# Altium footprint library pcblib_truman.PcbLib: 31 footprints (part 1 of 2)
Each footprint in its own frame and in the unit in brackets; x right, y up, seen from the top. Pads: shape width x height; smd on the part's side, far side on the other; paste and mask are expansions set on the pad; w line width, h text height; cw(c..) or ccw(c..) is an arc to the next point about the centre after c.
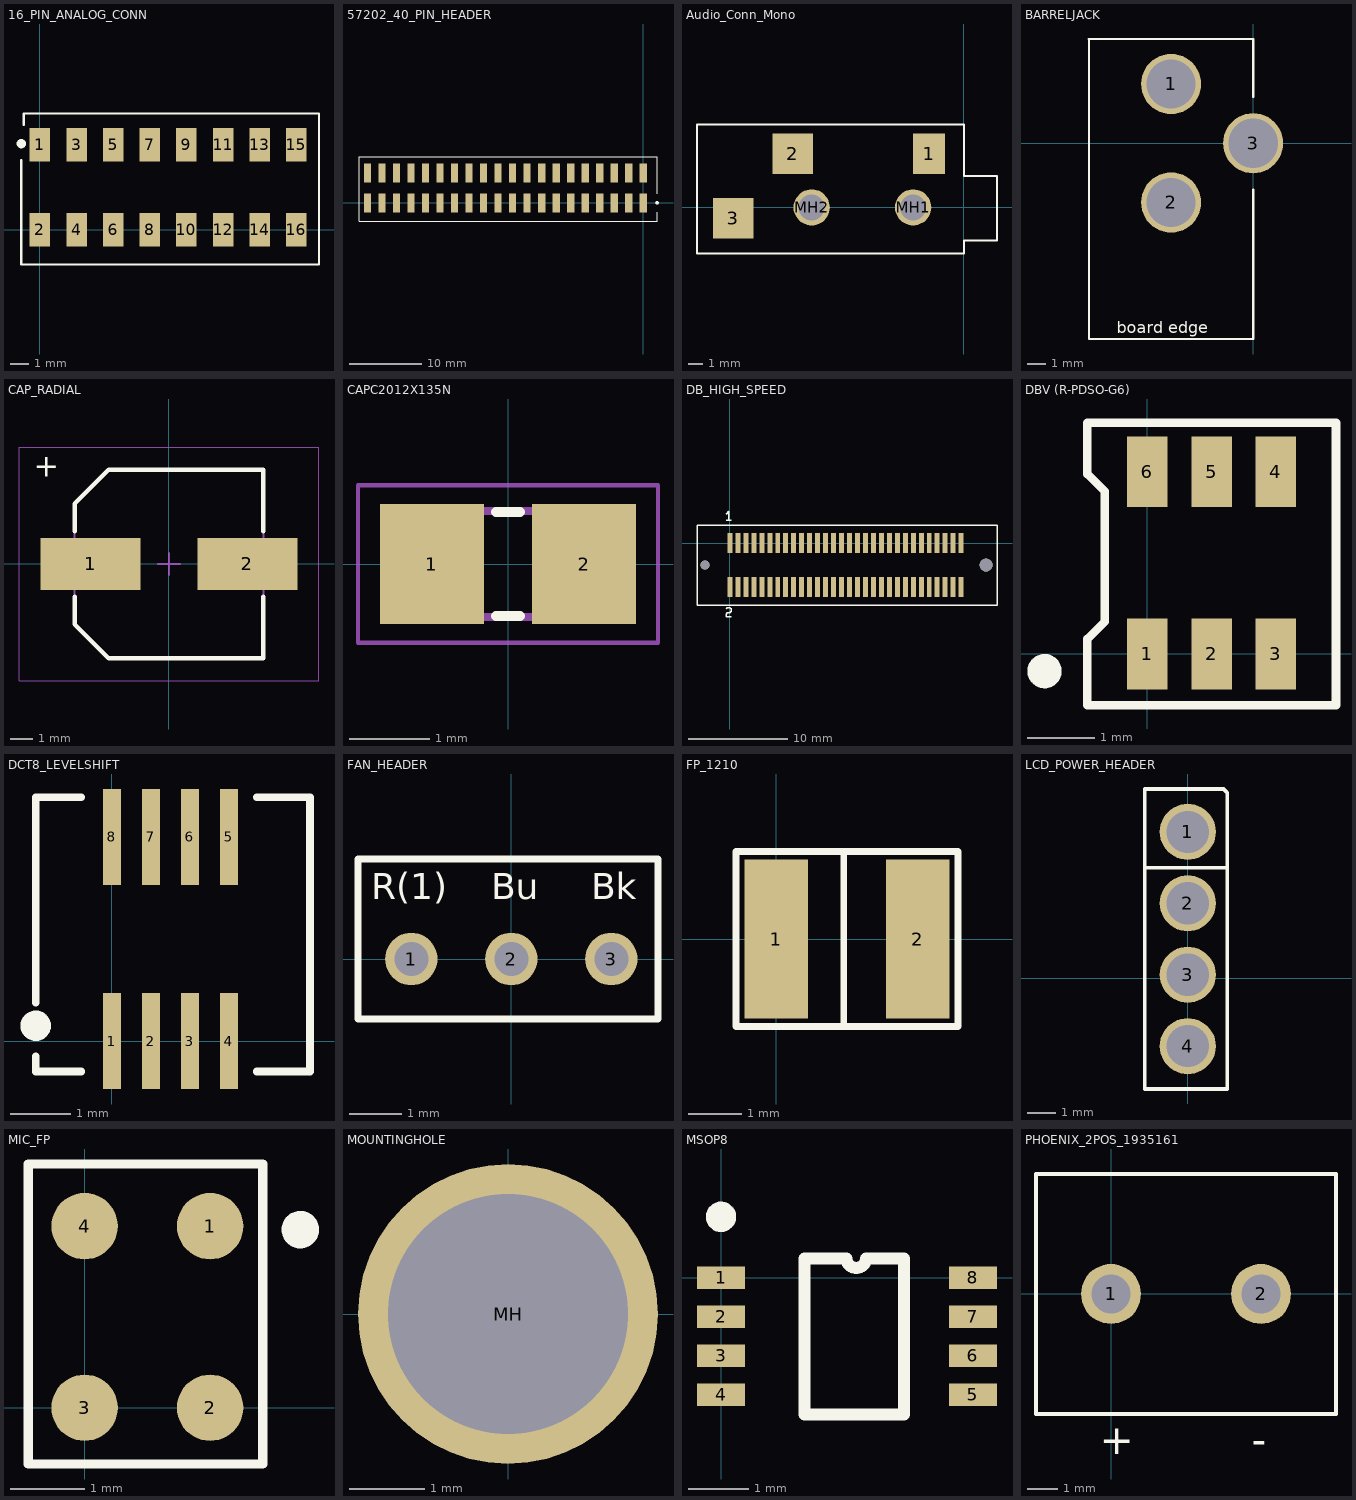
[diagram p0: the footprints below, top view; thin cyan lines are the x and y axes]

## 16_PIN_ANALOG_CONN [mm]
pads (16):
  rect 1.12x1.83 smd: 1(0,4.65) 2(0,0) 3(2,4.65) 4(2,0) 5(4,4.65) 6(4,0) 7(6,4.65) 8(6,0) 9(8,4.65) 10(8,0) 11(10,4.65) 12(10,0) 13(12,4.65) 14(12,0) 15(14,4.65) 16(14,0)
Top Overlay:
  circle w0.254: c-1.016,4.699 r0.127
  lines w0.127: -1.016,3.81 -1.016,-1.905 15.24,-1.905 15.24,6.35 -0.889,6.35 -0.889,5.715

## 57202_40_PIN_HEADER [mm]
pads (40):
  rect 1x2.6 smd: 1(0,0) 2(0,4.1) 3(-2,0) 4(-2,4.1) 5(-4,0) 6(-4,4.1) 7(-6,0) 8(-6,4.1) 9(-8,0) 10(-8,4.1) 11(-10,0) 12(-10,4.1) 13(-12,0) 14(-12,4.1) 15(-14,0) 16(-14,4.1) 17(-16,0) 18(-16,4.1) 19(-18,0) 20(-18,4.1) 21(-20,0) 22(-20,4.1) 23(-22,0) 24(-22,4.1) 25(-24,0) 26(-24,4.1) 27(-26,0) 28(-26,4.1) 29(-28,0) 30(-28,4.1) 31(-30,0) 32(-30,4.1) 33(-32,0) 34(-32,4.1) 35(-34,0) 36(-34,4.1) 37(-36,0) 38(-36,4.1) 39(-38,0) 40(-38,4.1)
Top Overlay:
  circle w0.254: c1.905,0 r0.127
  lines w0.127: 1.905,-1.27 1.905,-2.54 -39.116,-2.54 -39.116,6.35 1.905,6.35 1.905,4.699 1.905,1.27

## Audio_Conn_Mono [mm]
pads (5):
  rect 2.2x2.8 smd: 1(-2.4,3.7)
  rect 2.8x2.8 smd: 2(-11.8,3.7) 3(-15.9,-0.75)
  round 2.5 hole 1.8 unplated: MH1(-3.5,0) MH2(-10.5,0)
Top Overlay:
  lines w0.127: -18.415,-3.175 -18.415,5.715 -12.065,5.715 0,5.715 0,2.159 2.286,2.159 2.286,-1.905 2.286,-2.286 0,-2.286 0,-3.175 -18.415,-3.175

## BARRELJACK [mm]
pads (3):
  round 3.3 hole 2.7: 1(-4.5,3.25) 2(-4.5,-3.25) 3(0,0)
Top Overlay:
  lines w0.127: 0,-2.54 0,-10.74 -9,-10.74 -9,5.698 -9.017,5.715 0,5.715 0,2.54
  text "board edge" at -7.493,-10.414 h0.64

## CAP_RADIAL [mm] "Aluminum Electrolytic Capacitor, Body 8.30x8.30x10.50mm, IPC Low Density"
height 10.5
pads (2):
  rect 4.5x2.35 smd: 1(-3.525,0) 2(3.525,0)
Top Overlay:
  lines w0.2: -4.25,-1.475 -4.25,-2.713 -2.712,-4.25 4.25,-4.25 4.25,-1.475 ; -4.25,1.475 -4.25,2.712 -2.712,4.25 4.25,4.25 4.25,1.475
  text "+" at -6.096,3.937 h1
Mechanical 13:
  lines w0.1: -4.25,-2.713 -4.25,2.712 -2.712,4.25 4.25,4.25 4.25,-4.25 -2.712,-4.25 -4.25,-2.713
Mechanical 15:
  lines w0.05: -6.75,-5.25 6.75,-5.25 6.75,5.25 -6.75,5.25 -6.75,-5.25
  lines w0.1: -0.5,0 0.5,0 ; 0,-0.5 0,0.5
3D body: height 10.5, standoff 0, extent -4.25,-4.25 4.216,4.233
3D body: height 3.5, standoff 0, extent -4.25,-4.25 4.25,4.25

## CAPC2012X135N [mm]
pads (2):
  rect 1.3x1.5 smd: 1(-0.95,0) 2(0.95,0)
Top Overlay:
  lines w0.127: -0.15,-0.65 0.15,-0.65 ; -0.15,0.65 0.15,0.65
Mechanical 1:
  region: 0.356,0.726 1.106,0.726 1.106,-0.724 0.356,-0.724
  region: -1.093,0.726 -0.342,0.726 -0.342,-0.724 -1.093,-0.724
  lines w0.051: -1.873,-0.983 -1.873,0.983 1.873,0.983 1.873,-0.983 -1.873,-0.983
  lines w0.102: -0.381,0.66 0.381,0.66 ; -0.356,-0.66 0.381,-0.66

## DB_HIGH_SPEED [mm]
pads (62):
  rect 0.5x2 smd: 1(0,0) 2(0,-4.4) 3(0.8,0) 4(0.8,-4.4) 5(1.6,0) 6(1.6,-4.4) 7(2.4,0) 8(2.4,-4.4) 9(3.2,0) 10(3.2,-4.4) 11(4,0) 12(4,-4.4) 13(4.8,0) 14(4.8,-4.4) 15(5.6,0) 16(5.6,-4.4) 17(6.4,0) 18(6.4,-4.4) 19(7.2,0) 20(7.2,-4.4) 21(8,0) 22(8,-4.4) 23(8.8,0) 24(8.8,-4.4) 25(9.6,0) 26(9.6,-4.4) 27(10.4,0) 28(10.4,-4.4) 29(11.2,0) 30(11.2,-4.4) 31(12,0) 32(12,-4.4) 33(12.8,0) 34(12.8,-4.4) 35(13.6,0) 36(13.6,-4.4) 37(14.4,0) 38(14.4,-4.4) 39(15.2,0) 40(15.2,-4.4) 41(16,0) 42(16,-4.4) 43(16.8,0) 44(16.8,-4.4) 45(17.6,0) 46(17.6,-4.4) 47(18.4,0) 48(18.4,-4.4) 49(19.2,0) 50(19.2,-4.4) 51(20,0) 52(20,-4.4) 53(20.8,0) 54(20.8,-4.4) 55(21.6,0) 56(21.6,-4.4) 57(22.4,0) 58(22.4,-4.4) 59(23.2,0) 60(23.2,-4.4)
  round 0.9 hole 0.9 unplated: MH1(-2.5,-2.2)
  round 1.3 hole 1.3 unplated: MH2(25.7,-2.2)
Top Overlay:
  lines w0.127: -0.381,-6.604 -0.254,-6.477 0,-6.477 0.127,-6.604 0.127,-6.858 0,-6.985 -0.254,-6.985 -0.381,-7.112 -0.381,-7.366 0.127,-7.366 ; -0.381,2.286 -0.127,2.286 ; -0.381,2.921 -0.127,3.175 -0.127,2.286 ; 0.127,2.286 -0.127,2.286 ; -3.302,-6.223 26.797,-6.223 26.797,1.778 -3.302,1.778 -3.302,-6.223

## DBV (R-PDSO-G6) [mm] "6 pin dbv"
pads (6):
  rect 0.6x1.05 smd: 1(0,0) 2(0.95,0) 3(1.9,0) 4(1.9,2.7) 5(0.95,2.7) 6(0,2.7)
Top Overlay:
  circle w0.254: c-1.524,-0.254 r0.127
  lines w0.127: -0.889,-0.762 2.794,-0.762 2.794,3.429 -0.889,3.429 -0.889,3.175 -0.889,2.667 -0.635,2.413 -0.635,0.476 -0.889,0.222 -0.889,-0.762

## DCT8_LEVELSHIFT [mm]
pads (8):
  rect 0.3x1.6 smd: 1(0,0) 2(0.65,0) 3(1.3,0) 4(1.95,0) 5(1.95,3.4) 6(1.3,3.4) 7(0.65,3.4) 8(0,3.4)
Top Overlay:
  circle w0.254: c-1.27,0.254 r0.127
  lines w0.127: -1.27,-0.254 -1.27,-0.508 -0.508,-0.508 ; -1.27,0.635 -1.27,4.064 -0.508,4.064 ; 2.413,-0.508 3.302,-0.508 3.302,4.064 2.413,4.064

## FAN_HEADER [mm]
pads (3):
  round 1 hole 0.65: 1(-1.905,0) 2(0,0) 3(1.905,0)
Top Overlay:
  lines w0.127: -2.921,-1.143 -2.921,1.905 2.794,1.905 2.794,-1.143 -2.921,-1.143
  text "Bk" at 1.524,1.143 h0.5
  text "Bu" at -0.381,1.143 h0.5
  text "R(1)" at -2.667,1.143 h0.5

## FP_1210 [mm]
pads (2):
  rect 1.2x3 smd: 1(0,0) 2(2.667,0)
Top Overlay:
  lines w0.127: 1.27,-1.651 1.27,1.651 ; 1.27,1.651 -0.762,1.651 -0.762,-1.651 3.429,-1.651 3.429,1.651 1.27,1.651

## LCD_POWER_HEADER [mm]
pads (4):
  round 2 hole 1.5: 1(0,5.207) 2(0,2.667) 3(0,0.127) 4(0,-2.413)
Top Overlay:
  lines w0.127: -1.524,6.477 -1.524,3.937 1.397,3.937 ; -1.524,6.477 -1.524,-3.937 1.397,-3.937 1.397,3.937 ; -1.524,6.477 -1.524,6.731 1.27,6.731 1.397,6.604 1.397,6.35 1.397,5.493 1.397,4.794 1.397,3.937

## MIC_FP [mm]
pads (4):
  round 0.9 smd: 1(1.7,2.46) 2(1.7,0) 3(0,0) 4(0,2.46)
Top Overlay:
  circle w0.254: c2.921,2.413 r0.127
  lines w0.127: -0.762,-0.762 2.413,-0.762 2.413,3.302 0.889,3.302 -0.762,3.302 -0.762,-0.762

## MOUNTINGHOLE [mm] "mounting hole"
pads (1):
  round 4 hole 3.2 unplated: MH(0,0)

## MSOP8 [mm]
pads (8):
  rect 0.8x0.38 smd: 1(0,0) 2(0,-0.65) 3(0,-1.3) 4(0,-1.95) 5(4.2,-1.95) 6(4.2,-1.3) 7(4.2,-0.65) 8(4.2,0)
Top Overlay:
  circle w0.254: c0,1.016 r0.127
  lines w0.2: 1.389,-2.275 3.048,-2.275 3.048,0.325 2.416,0.325 cw(c2.254,0.325) 2.091,0.325 1.389,0.325 1.389,-2.275

## PHOENIX_2POS_1935161 [mm]
pads (2):
  round 2 hole 1.3: 1(0,0) 2(5,0)
Top Overlay:
  lines w0.127: -2.5,-4 -2.5,4 7.5,4 7.5,-4 -2.5,-4
  text "-" at 4.699,-5.334 h1
  text "+" at -0.381,-5.334 h1